# Altium footprint library E28系列-PcbLib.PcbLib: 2 footprints
Each footprint in its own frame and in the unit in brackets; x right, y up, seen from the top. Pads: shape width x height; smd on the part's side, far side on the other; paste and mask are expansions set on the pad; w line width, h text height; cw(c..) or ccw(c..) is an arc to the next point about the centre after c.
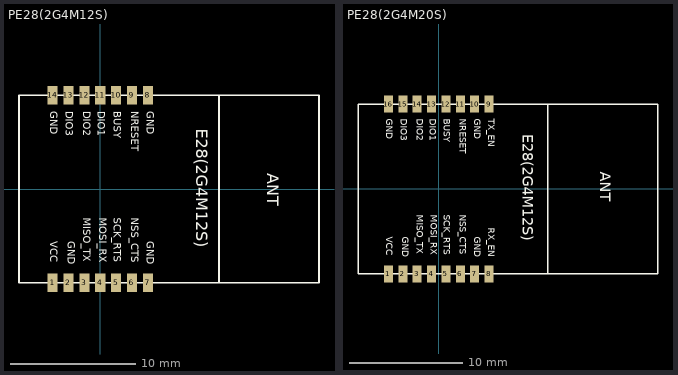
[diagram p0: the footprints below, top view; thin cyan lines are the x and y axes]

## PE28(2G4M12S) [mm] "24mm*15mm*2.85mm-S"
pads (14):
  rect 0.8x1.5 smd: 1(-3.81,-7.5) 2(-2.54,-7.5) 3(-1.27,-7.5) 4(0,-7.5) 5(1.27,-7.5) 6(2.54,-7.5) 7(3.81,-7.5) 8(3.81,7.5) 9(2.54,7.5) 10(1.27,7.5) 11(0,7.5) 12(-1.27,7.5) 13(-2.54,7.5) 14(-3.81,7.5)
Top Overlay:
  lines w0.127: 9.499,-7.5 9.499,7.5 ; -6.5,-7.5 -6.5,7.5 17.5,7.5 17.5,-7.5 -6.5,-7.5
  text "ANT" at 13.058,1.263 h1.6
  text "E28(2G4M12S)" at 7.343,4.819 h1.6
  text "GND" at -4.214,6.216 h1
  text "DIO3" at -2.944,6.216 h1
  text "DIO2" at -1.547,6.216 h1
  text "DIO1" at -0.404,6.216 h1
  text "BUSY" at 0.866,6.216 h1
  text "NRESET" at 2.263,6.216 h1
  text "GND" at 3.533,6.216 h1
  text "GND" at 3.533,-4.198 h1
  text "NSS_CTS" at 2.263,-2.293 h1
  text "SCK_RTS" at 0.866,-2.293 h1
  text "MOSI_RX" at -0.277,-2.293 h1
  text "MISO_TX" at -1.547,-2.293 h1
  text "GND" at -2.817,-4.198 h1
  text "VCC" at -4.214,-4.198 h1

## PE28(2G4M20S) [mm] "26.5mm*15mm*2.85mm-S"
pads (16):
  rect 0.8x1.5 smd: 1(-4.445,-7.5) 2(-3.175,-7.5) 3(-1.905,-7.5) 4(-0.635,-7.5) 5(0.635,-7.5) 6(1.905,-7.5) 7(3.175,-7.5) 8(4.445,-7.5) 9(4.445,7.5) 10(3.175,7.5) 11(1.905,7.5) 12(0.635,7.5) 13(-0.635,7.5) 14(-1.905,7.5) 15(-3.175,7.5) 16(-4.445,7.5)
Top Overlay:
  lines w0.127: 9.626,-7.5 9.626,7.5 ; -7.135,-7.5 19.365,-7.5 19.365,7.5 -7.135,7.5 -7.135,-7.5
  text "RX_EN" at 4.168,-3.436 h1
  text "VCC" at -4.849,-4.198 h1
  text "GND" at -3.452,-4.198 h1
  text "MISO_TX" at -2.182,-2.293 h1
  text "MOSI_RX" at -0.912,-2.293 h1
  text "SCK_RTS" at 0.231,-2.293 h1
  text "NSS_CTS" at 1.628,-2.293 h1
  text "GND" at 2.898,-4.198 h1
  text "GND" at 2.898,6.216 h1
  text "NRESET" at 1.628,6.216 h1
  text "BUSY" at 0.231,6.216 h1
  text "DIO1" at -1.039,6.216 h1
  text "DIO2" at -2.182,6.216 h1
  text "DIO3" at -3.579,6.216 h1
  text "GND" at -4.849,6.216 h1
  text "E28(2G4M12S)" at 7.089,4.819 h1.6
  text "ANT" at 13.947,1.517 h1.6
  text "TX_EN" at 4.168,6.216 h1